# EAGLE library part SI1869DH (library PMIC)
LOAD SW LVL SHIFT 20V SC70-6 Datasheet <http://www.vishay.com/docs/73449/si1869dh.pdf>
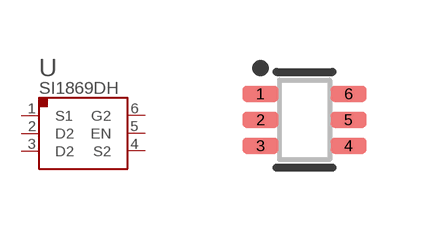
[diagram p1: symbol with the pads of SC-70-6; footprint SC-70-6]

Designator prefix U

## SI1869DH (DESC: LOAD SW LVL SHIFT 20V SC70-6; DVAL: Si1869DH; PARTNO: New)  [SC-70-6]
1  S1  pwr
2  D2  pwr
3  D2  pwr
4  S2  pwr
5  EN  pwr
6  G2  pwr

## Footprint SC-70-6 (pad centres in mm)
SC-70-6 / SOT363 / TSSOP-6, 6-Leads, Body 2.00x2.10mm, Pitch 0.65mm, IPC Medium Density Changelog: 01/23/15 - Rounded pads 50%. Update description. New tDocu. Shrink and adjust pads to IPC. CN 10/30/13 - Changes to pads to tighten up area. Update tPlace for consistency. CN 04/16/13 - Rotate package. Change tPlace and text for better look (mm grid). CN
smd 0.9 x 0.4: 1 -1.1,0.65; 2 -1.1,0; 3 -1.1,-0.65; 4 1.1,-0.65; 5 1.1,0; 6 1.1,0.65